# Altium footprint library Arduino_Uno_Custom_PCBLib.PcbLib: 28 footprints (part 1 of 2)
Each footprint in its own frame and in the unit in brackets; x right, y up, seen from the top. Pads: shape width x height; smd on the part's side, far side on the other; paste and mask are expansions set on the pad; w line width, h text height; cw(c..) or ccw(c..) is an arc to the next point about the centre after c.
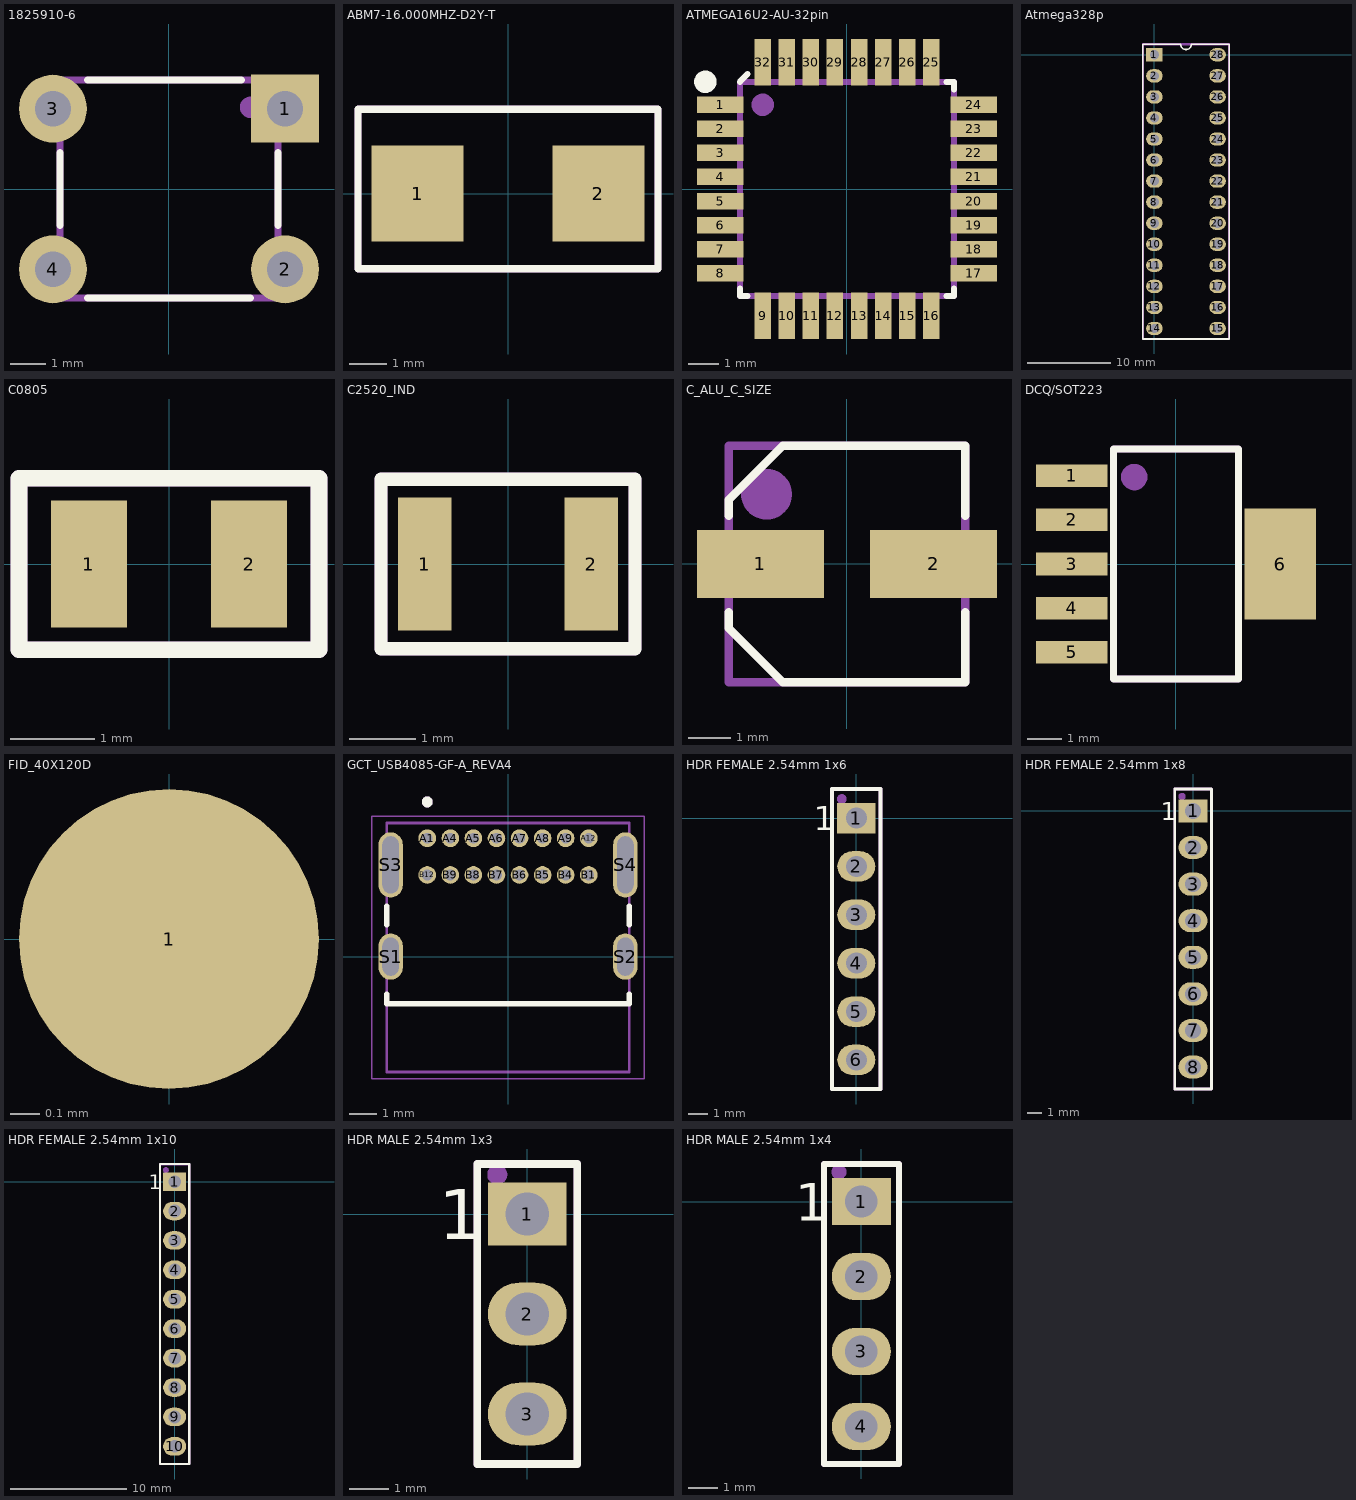
[diagram p0: the footprints below, top view; thin cyan lines are the x and y axes]

## 28_DIP_7.62MM_SOCKET [mm]
3D body "dil_socket.stp": height 4.2, standoff -3.17, extent -1.24,-34.26 8.86,1.24

## 1825910-6 [mm]
pads (4):
  rect 1.9x1.9 hole 1: 1(3.25,2.25)
  round 1.9 hole 1: 2(3.25,-2.25) 3(-3.25,2.25) 4(-3.25,-2.25)
Top Overlay:
  lines w0.2: -3.048,-1.016 -3.048,1.016 ; -2.286,-3.048 2.286,-3.048 ; -2.286,3.048 -2.032,3.048 2.032,3.048 ; 3.048,-1.016 3.048,1.016
Mechanical 29:
  circle w0.4: c2.286,2.286 r0.1
  lines w0.2: -3.048,-3.048 -3.048,3.048 3.048,3.048 3.048,-3.048 -3.048,-3.048
  text ".Designator" at -2.54,-0.508 h1.52
3D body "User Library-Tactile switch 6x6x5mm.SLDPRT": height 5.02, standoff -3.5, extent -3.871,-3.015 3.871,3.015

## ABM7-16.000MHZ-D2Y-T [mm]
pads (2):
  rect 2.5x2.6 smd: 1(-2.45,0) 2(2.45,0)
Top Overlay:
  lines w0.2: -4.064,-2.032 -4.064,2.286 4.064,2.286 4.064,-2.032 -4.064,-2.032
Mechanical 29:
  lines w0.2: -4.064,-2.032 4.064,-2.032 4.064,2.286 -4.064,2.286 -4.064,-2.032
  text ".Designator" at -3.048,-0.254 h1.52
3D body "User Library-Xtal-ABM7.STEP": height 1.41, standoff 0.01, extent -3.1,-1.668 3.1,2.032

## ATMEGA16U2-AU-32pin [mm]
pads (32):
  rect 1.55x0.55 smd mask+0.06: 1(-4.2,2.8) 2(-4.2,2) 3(-4.2,1.2) 4(-4.2,0.4) 5(-4.2,-0.4) 6(-4.2,-1.2) 7(-4.2,-2) 8(-4.2,-2.8) 17(4.2,-2.8) 18(4.2,-2) 19(4.2,-1.2) 20(4.2,-0.4) 21(4.2,0.4) 22(4.2,1.2) 23(4.2,2) 24(4.2,2.8)
  rect 0.55x1.55 smd mask+0.06: 9(-2.8,-4.2) 10(-2,-4.2) 11(-1.2,-4.2) 12(-0.4,-4.2) 13(0.4,-4.2) 14(1.2,-4.2) 15(2,-4.2) 16(2.8,-4.2) 25(2.8,4.2) 26(2,4.2) 27(1.2,4.2) 28(0.4,4.2) 29(-0.4,4.2) 30(-1.2,4.2) 31(-2,4.2) 32(-2.8,4.2)
Top Overlay:
  circle w0.5: c-4.699,3.556 r0.12
  lines w0.2: -3.556,-3.302 -3.556,-3.556 -3.302,-3.556 ; -3.556,3.556 -3.302,3.81 ; 3.302,-3.556 3.556,-3.556 3.556,-3.302 ; 3.302,3.556 3.556,3.556 3.556,3.302
Mechanical 29:
  circle w0.5: c-2.794,2.794 r0.12
  lines w0.2: -3.556,-3.556 3.556,-3.556 3.556,3.556 -3.556,3.556 -3.556,-3.556
  text ".Designator" at -2.646,-0.138 h1.52
3D body "User Library-tqfp32.STEP": height 1.2, standoff 0, extent -4.599,-4.599 4.6,4.599

## Atmega328p [mm]
pads (28):
  rect 2x1.6 hole 1.1: 1(0,0)
  oval 2x1.6 hole 1.1: 2(0,-2.54) 3(0,-5.08) 4(0,-7.62) 5(0,-10.16) 6(0,-12.7) 7(0,-15.24) 8(0,-17.78) 9(0,-20.32) 10(0,-22.86) 11(0,-25.4) 12(0,-27.94) 13(0,-30.48) 14(0,-33.02) 15(7.62,-33.02) 16(7.62,-30.48) 17(7.62,-27.94) 18(7.62,-25.4) 19(7.62,-22.86) 20(7.62,-20.32) 21(7.62,-17.78) 22(7.62,-15.24) 23(7.62,-12.7) 24(7.62,-10.16) 25(7.62,-7.62) 26(7.62,-5.08) 27(7.62,-2.54) 28(7.62,0)
Top Overlay:
  lines w0.2: -1.39,-34.29 9.01,-34.29 9.01,1.27 4.445,1.27 cw(c3.81,1.27) 3.175,1.27 -1.39,1.27 -1.39,-7.62 -1.39,-25.4 -1.39,-34.29
Mechanical 29:
  circle w0.5: c0,0 r0.237
  lines w0.25: -1.397,-34.29 -1.397,1.27 3.048,1.27 9.017,1.27 9.017,-34.29 -1.397,-34.29
  text ".Designator" at 6.35,-31.75 h3
3D body "atmega328-pu.stp": height 8.2, standoff 0.9, extent -1.167,-33.81 8.509,0.79

## C0805 [mm]
pads (2):
  rect 0.9x1.5 smd: 1(-0.95,0) 2(0.95,0)
Top Overlay:
  lines w0.2: -1.778,-1.016 1.778,-1.016 1.778,1.016 -1.778,1.016 -1.778,-1.016
Mechanical 29:
  lines w0.2: -1.778,-1.016 1.778,-1.016 1.778,1.016 -1.778,1.016 -1.778,-1.016
  text ".Designator" at -0.889,-0.127 h0.76
3D body "CAPC2012X94N EIA 0805.step": height 0.95, standoff 0.01, extent -1,-0.6 1,0.6

## C2520_IND [mm]
pads (2):
  rect 0.8x2 smd: 1(-1.25,0) 2(1.25,0)
Top Overlay:
  lines w0.2: -1.905,-1.27 1.905,-1.27 1.905,1.27 -1.905,1.27 -1.905,-1.27
Mechanical 29:
  lines w0.2: -1.905,-1.27 1.905,-1.27 1.905,1.27 -1.905,1.27 -1.905,-1.27
  text ".Designator" at -1.17,-0.395 h0.8
3D body "IND_CIGT252010_SAM.step": height 0.99, standoff 0, extent -1.346,-1.105 1.346,1.105

## C_ALU_C_SIZE [mm]
pads (2):
  rect 3x1.6 smd: 1(-2.05,0) 2(2.05,0)
Top Overlay:
  lines w0.2: -2.794,-1.143 -2.794,-1.524 -1.524,-2.794 2.794,-2.794 2.794,-1.143 ; -2.794,1.143 -2.794,1.524 -1.524,2.794 2.794,2.794 2.794,1.143
Mechanical 29:
  circle w0.8: c-1.905,1.651 r0.2
  lines w0.2: -2.794,-2.794 -2.794,1.651 -2.794,2.794 2.794,2.794 2.794,-2.794 -2.794,-2.794
  text ".Designator" at -2.286,-1.016 h1.52
3D body "User Library-capacitor size C.sldprt": height 5.41, standoff -0.01, extent -2.95,-2.65 2.95,2.65

## DCQ/SOT223 [mm]
pads (6):
  rect 2.05x0.65 smd: 1(-3,2.54) 2(-3,1.27) 3(-3,0) 4(-3,-1.27) 5(-3,-2.54)
  rect 2.05x3.2 smd: 6(3,0)
Top Overlay:
  lines w0.2: -1.8,-3.3 -1.8,3.3 1.8,3.3 1.8,-3.3 -1.8,-3.3
Mechanical 29:
  circle w0.4: c-1.2,2.5 r0.18
  lines w0.2: -1.8,-3.3 1.8,-3.3 1.8,3.3 -1.8,3.3 -1.8,-3.3
  text ".Designator" at -1.3,-0.367 h1
3D body "User Library-TPS73701DCQ.STEP": height 1.8, standoff 0, extent -3.73,-3.25 3.53,3.3

## FID_40X120D [mil]
pads (1):
  round 40 smd paste-40 mask+40: 1(0,0)

## GCT_USB4085-GF-A_REVA4 [mm]
height 3.46
pads (20):
  round 0.65 hole 0.4: A1(-2.975,4.36) A4(-2.125,4.36) A5(-1.275,4.36) A6(-0.425,4.36) A7(0.425,4.36) A8(1.275,4.36) A9(2.125,4.36) A12(2.975,4.36) B1(2.975,3.01) B4(2.125,3.01) B5(1.275,3.01) B6(0.425,3.01) B7(-0.425,3.01) B8(-1.275,3.01) B9(-2.125,3.01) B12(-2.975,3.01)
  oval 0.9x1.7 hole 0.6 slot 1.4 at 90 deg: S1(-4.325,0) S2(4.325,0)
  oval 0.9x2.4 hole 0.6 slot 2.1 at 90 deg: S3(-4.325,3.38) S4(4.325,3.38)
Top Overlay:
  circle w0.2: c-2.975,5.7 r0.1
  lines w0.2: -4.47,-1.39 -4.47,-1.74 4.47,-1.74 4.47,-1.39 ; -4.47,1.17 -4.47,1.85 ; 4.47,1.17 4.47,1.85
Mechanical 13:
  circle w0.2: c-2.975,5.7 r0.1
Mechanical 15:
  lines w0.05: -5.025,-4.5 5.025,-4.5 5.025,5.17 -5.025,5.17 -5.025,-4.5
Mechanical 29:
  lines w0.1: -4.47,-4.25 -4.47,-1.74 -4.47,4.92 4.47,4.92 4.47,-4.25 -4.47,-4.25
  text ".Designator" at -3.146,-0.238 h1.52
3D body "step_temp.STEP": height 3.46, standoff -2.1, extent -4.47,-4.25 4.47,4.92

## HDR FEMALE 2.54mm 1x6 [mm]
pads (6):
  rect 2x1.6 hole 1.1: 1(0,0)
  oval 2x1.6 hole 1.1: 2(0,-2.54) 3(0,-5.08) 4(0,-7.62) 5(0,-10.16) 6(0,-12.7)
Top Overlay:
  lines w0.2: -1.27,-14.224 1.27,-14.224 1.27,1.524 0,1.524 -1.27,1.524 -1.27,-14.224
  text "1" at -2.246,-0.646 h1.27
Mechanical 29:
  circle w0.254: c-0.76,0.998 r0.127
  lines w0.2: -1.27,-14.224 -1.27,1.524 1.27,1.524 1.27,-14.224 -1.27,-14.224
  text ".Designator" at 1.524,-13.716 h1.52
3D body "m20-7820646.stp": height 8.51, standoff -2.99, extent -1.27,-14.17 1.23,1.47

## HDR FEMALE 2.54mm 1x8 [mm]
pads (8):
  rect 2x1.6 hole 1.1: 1(0,0)
  oval 2x1.6 hole 1.1: 2(0,-2.54) 3(0,-5.08) 4(0,-7.62) 5(0,-10.16) 6(0,-12.7) 7(0,-15.24) 8(0,-17.78)
Top Overlay:
  lines w0.2: -1.27,-19.304 1.27,-19.304 1.27,1.524 0,1.524 -1.27,1.524 -1.27,-19.304
  text "1" at -2.246,-0.646 h1.27
Mechanical 29:
  circle w0.254: c-0.76,0.998 r0.127
  lines w0.2: -1.27,-19.304 -1.27,1.524 1.27,1.524 1.27,-19.304 -1.27,-19.304
  text ".Designator" at 1.27,-13.462 h1.52
3D body "m20-7820842.stp": height 8.31, standoff -3.19, extent -1.23,-19.25 1.27,1.47

## HDR FEMALE 2.54mm 1x10 [mm]
pads (10):
  rect 2x1.6 hole 1.1: 1(0,0)
  oval 2x1.6 hole 1.1: 2(0,-2.54) 3(0,-5.08) 4(0,-7.62) 5(0,-10.16) 6(0,-12.7) 7(0,-15.24) 8(0,-17.78) 9(0,-20.32) 10(0,-22.86)
Top Overlay:
  lines w0.2: -1.27,-24.384 1,-24.384 1.27,-24.384 1.27,-24 1.27,1.5 1.246,1.524 0,1.524 -1.246,1.524 -1.27,1.5 -1.27,-24 -1.27,-24.384
  text "1" at -2.246,-0.646 h1.27
Mechanical 29:
  circle w0.254: c-0.76,0.998 r0.127
  lines w0.2: -1.258,-24.372 -1.258,1.512 1.258,1.512 1.258,-24.372 1.27,-24.384 -1.246,-24.384 -1.258,-24.372
  text ".Designator" at 1.524,-14.986 h1.52
3D body "m20-7821046.stp": height 8.31, standoff -3.19, extent -1.25,-24.33 1.25,1.47

## HDR MALE 2.54mm 1x3 [mm]
pads (3):
  rect 2x1.6 hole 1.1: 1(0,0)
  oval 2x1.6 hole 1.1: 2(0,-2.54) 3(0,-5.08)
Top Overlay:
  lines w0.2: -1.27,-6.35 1.27,-6.35 1.27,1.27 -1.27,1.27 -1.27,-6.35
  text "1" at -2.246,-0.646 h1.27
Mechanical 29:
  circle w0.254: c-0.76,0.998 r0.127
  lines w0.2: -1.27,-6.35 -1.27,1.27 1.27,1.27 1.27,-6.35 -1.27,-6.35
  text ".Designator" at 1.016,-6.096 h1
3D body "User Library-1x3 TH Pitch 2_54mm.STEP": height 9.21, standoff -3.49, extent -1.27,-6.35 1.27,1.27

## HDR MALE 2.54mm 1x4 [mm]
pads (4):
  rect 2x1.6 hole 1.1: 1(0,0)
  oval 2x1.6 hole 1.1: 2(0,-2.54) 3(0,-5.08) 4(0,-7.62)
Top Overlay:
  lines w0.2: -1.27,-8.89 1.27,-8.89 1.27,1.27 -1.27,1.27 -1.27,-8.89
  text "1" at -2.246,-0.646 h1.27
Mechanical 29:
  circle w0.254: c-0.76,0.998 r0.127
  lines w0.2: -1.27,-8.89 -1.27,1.27 1.27,1.27 1.27,-8.89 -1.27,-8.89
  text ".Designator" at 1.524,-8.382 h1.52
3D body "User Library-1x4 TH Pitch 2_54mm.STEP": height 9.21, standoff -3.49, extent -1.27,-8.89 1.27,1.27